# Altium footprint library ACEstat.PcbLib: 15 footprints
Each footprint in its own frame and in the unit in brackets; x right, y up, seen from the top. Pads: shape width x height; smd on the part's side, far side on the other; paste and mask are expansions set on the pad; w line width, h text height; cw(c..) or ccw(c..) is an arc to the next point about the centre after c.
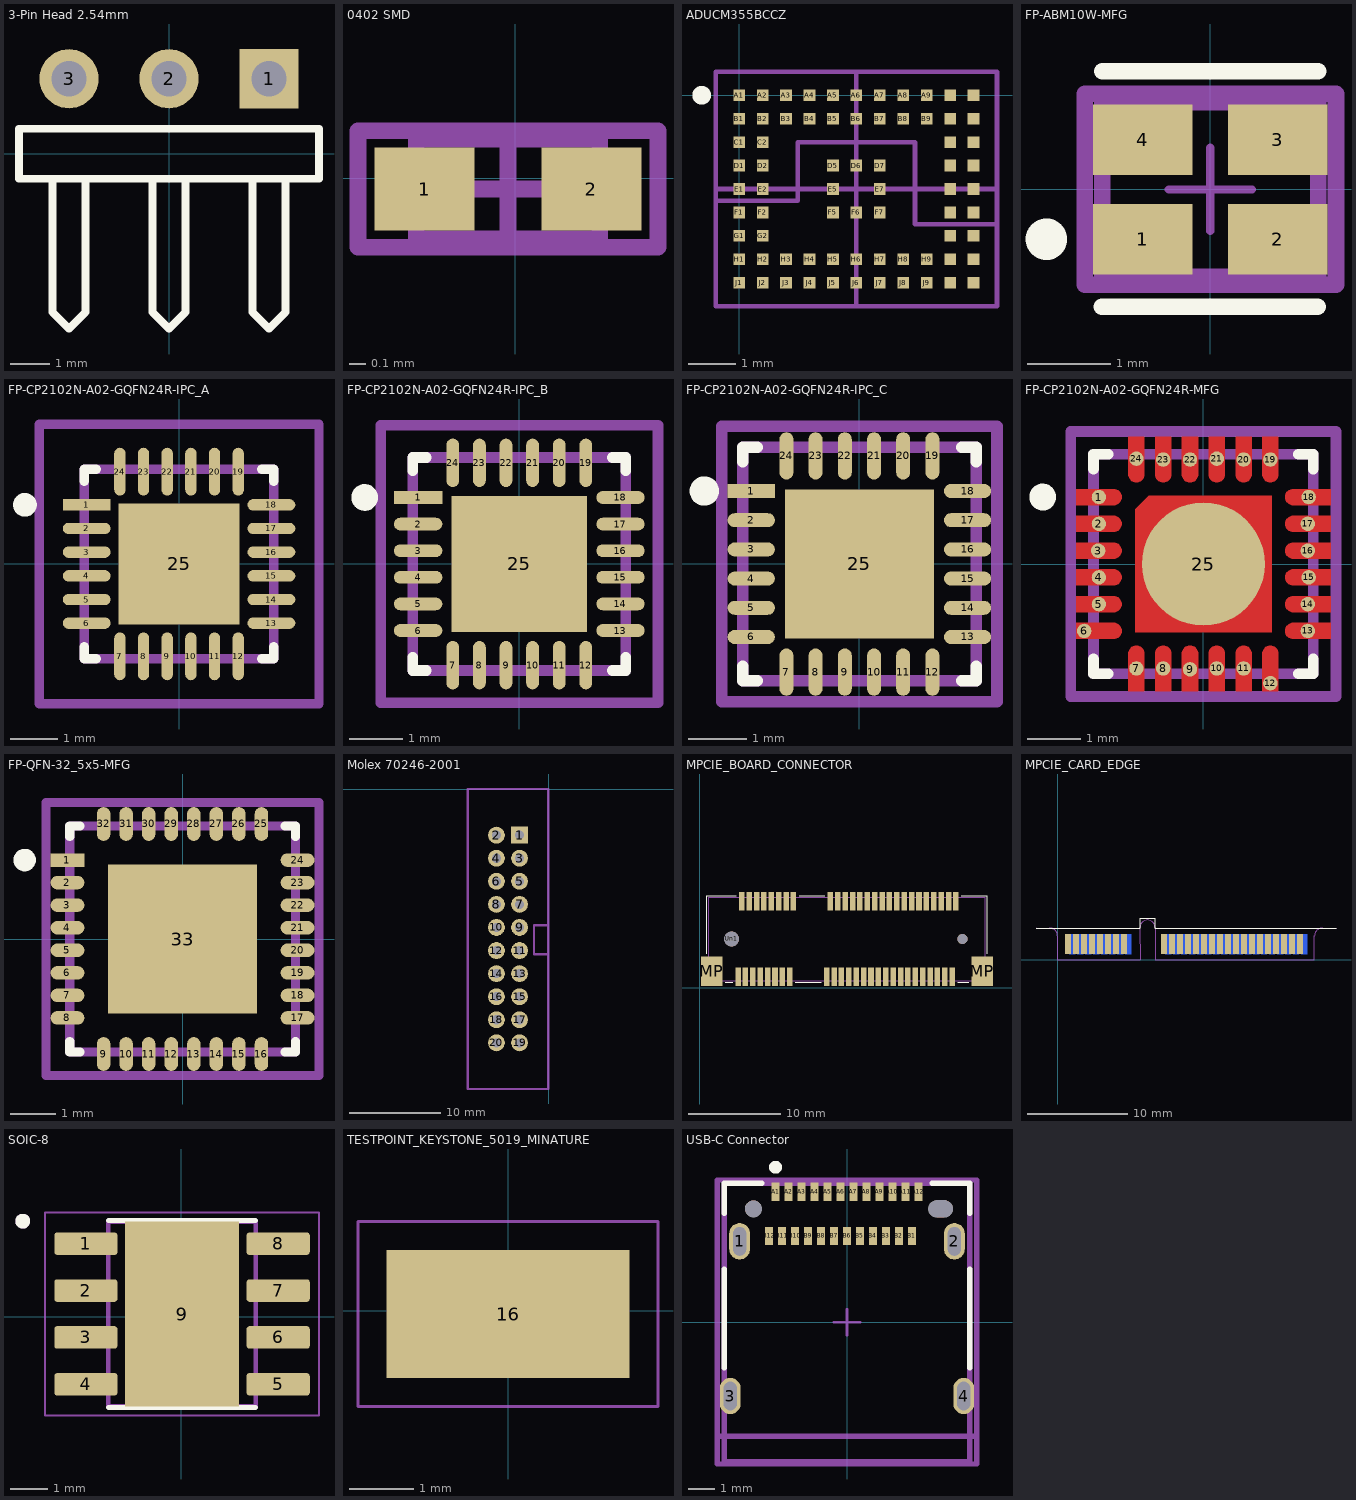
[diagram p0: the footprints below, top view; thin cyan lines are the x and y axes]

## 3-Pin Head 2.54mm [mm]
pads (3):
  rect 1.5x1.5 hole 0.9: 1(2.54,1.905)
  round 1.5 hole 0.9: 2(0,1.905) 3(-2.54,1.905)
Top Overlay:
  lines w0.2: -2.963,-0.635 -2.963,-4.022 -2.54,-4.445 -2.117,-4.022 -2.117,-0.635 ; -0.423,-0.635 -0.423,-4.022 0,-4.445 0.423,-4.022 0.423,-0.635 ; 2.117,-0.635 2.117,-4.022 2.54,-4.445 2.963,-4.022 2.963,-0.635 ; -3.81,-0.635 3.81,-0.635 3.81,0.635 -3.81,0.635 -3.81,-0.635

## 0402 SMD [mm] "Footprint for 0402 SMD components"
pads (2):
  rect 0.6x0.5 smd paste+0: 1(-0.544,-0.065)
  rect 0.6x0.5 smd: 2(0.456,-0.065)
Mechanical 13:
  lines w0.1: -0.594,-0.365 0.506,-0.365 0.506,0.235 -0.594,0.235 -0.594,-0.365
Mechanical 15:
  lines w0.1: -0.344,-0.065 0.256,-0.065 ; -0.044,-0.365 -0.044,0.235 ; -0.944,-0.415 0.856,-0.415 0.856,0.285 -0.944,0.285 -0.944,-0.415
3D body: height 1.3, standoff 0, extent -0.594,-0.365 0.506,0.235

## ADUCM355BCCZ [mm]
pads (72):
  rect 0.25x0.25 smd paste+0 mask+0.05: A1(0,0) A2(0.5,0) A3(1,0) A4(1.5,0) A5(2,0) A6(2.5,0) A7(3,0) A8(3.5,0) A9(4,0) A10(4.5,0) A11(5,0) B1(0,-0.5) B2(0.5,-0.5) B3(1,-0.5) B4(1.5,-0.5) B5(2,-0.5) B6(2.5,-0.5) B7(3,-0.5) B8(3.5,-0.5) B9(4,-0.5) B10(4.5,-0.5) B11(5,-0.5) C1(0,-1) C2(0.5,-1) C10(4.5,-1) C11(5,-1) D1(0,-1.5) D2(0.5,-1.5) D5(2,-1.5) D6(2.5,-1.5) D7(3,-1.5) D10(4.5,-1.5) D11(5,-1.5) E1(0,-2) E2(0.5,-2) E5(2,-2) E7(3,-2) E10(4.5,-2) E11(5,-2) F1(0,-2.5) F2(0.5,-2.5) F5(2,-2.5) F6(2.5,-2.5) F7(3,-2.5) F10(4.5,-2.5) F11(5,-2.5) G1(0,-3) G2(0.5,-3) G10(4.5,-3) G11(5,-3) H1(0,-3.5) H2(0.5,-3.5) H3(1,-3.5) H4(1.5,-3.5) H5(2,-3.5) H6(2.5,-3.5) H7(3,-3.5) H8(3.5,-3.5) H9(4,-3.5) H10(4.5,-3.5) H11(5,-3.5) J1(0,-4) J2(0.5,-4) J3(1,-4) J4(1.5,-4) J5(2,-4) J6(2.5,-4) J7(3,-4) J8(3.5,-4) J9(4,-4) J10(4.5,-4) J11(5,-4)
Top Overlay:
  circle w0.2: c-0.8,0 r0.1
Top Courtyard:
  lines w0.1: -0.5,-4.5 -0.5,0.5 5.5,0.5 5.5,-4.5 -0.5,-4.5
Top Assembly:
  lines w0.1: -0.5,-4.5 -0.5,0.5 5.5,0.5 5.5,-4.5 -0.5,-4.5 ; -0.5,-4.5 -0.5,-4.5
Ground Separation:
  lines w0.1: -0.5,-2.25 1.25,-2.25 1.25,-1 3.75,-1 3.75,-2.75 5.5,-2.75
Mechanical 15:
  lines w0.1: -0.5,-2 5.5,-2 ; 2.5,-4.5 2.5,0.5
3D body: height 0.25, standoff 0, extent -0.5,-4.5 5.5,0.5

## FP-ABM10W-MFG [mm]
pads (4):
  rect 1.2x0.85 smd paste+0 mask+0: 1(-0.813,-0.6) 2(0.813,-0.6) 3(0.813,0.6) 4(-0.813,0.6)
Top Overlay:
  circle w0.25: c-1.975,-0.6 r0.125
  lines w0.2: -1.308,-1.415 1.292,-1.415 ; -1.3,1.425 1.3,1.425
Top 3D Body:
  lines w0.2: -1.3,-1.05 -1.3,1.05 1.3,1.05 1.3,-1.05 -1.3,-1.05
Top Courtyard:
  lines w0.2: -1.512,-1.15 -1.512,1.15 1.512,1.15 1.512,-1.15 -1.512,-1.15
Top Assembly:
  lines w0.2: -1.512,-1.15 -1.512,1.15 1.512,1.15 1.512,-1.15 -1.512,-1.15
  text ".Designator" at 0,0.188 h1
Top Component Center:
  lines w0.1: -0.5,0 0.5,0 ; 0,-0.5 0,0.5
3D body "Crys_Abracon_ABM10W-19_7079MHZ-7-K2Z-T3_eec.STEP": height 0.25, standoff 0, extent -1.512,-1.15 1.512,1.15

## FP-CP2102N-A02-GQFN24R-IPC_A [mm]
pads (25):
  rect 1.01x0.239 smd paste+0 mask+0: 1(-1.951,1.25)
  rrect100% 1.01x0.239 smd paste+0 mask+0: 2(-1.951,0.75) 3(-1.951,0.25) 4(-1.951,-0.25) 5(-1.951,-0.75) 6(-1.951,-1.25) 13(1.951,-1.25) 14(1.951,-0.75) 15(1.951,-0.25) 16(1.951,0.25) 17(1.951,0.75) 18(1.951,1.25)
  rrect100% 0.239x1.01 smd paste+0 mask+0: 7(-1.25,-1.951) 8(-0.75,-1.951) 9(-0.25,-1.951) 10(0.25,-1.951) 11(0.75,-1.951) 12(1.25,-1.951) 19(1.25,1.951) 20(0.75,1.951) 21(0.25,1.951) 22(-0.25,1.951) 23(-0.75,1.951) 24(-1.25,1.951)
  rect 2.55x2.55 smd paste-1000 mask+0: 25(0,0)
Top Overlay:
  circle w0.25: c-3.256,1.25 r0.125
  lines w0.2: -2,-1.75 -2,-2 -1.75,-2 ; -2,1.75 -2,2 -1.75,2 ; 1.75,-2 2,-2 2,-1.75 ; 1.75,2 2,2 2,1.75
Top Paste:
  rectangle: -0.806,-0.806 0.806,0.806
Top 3D Body:
  lines w0.2: -2,-2 -2,2 2,2 2,-2 -2,-2
Top Courtyard:
  lines w0.2: -2.956,-2.956 -2.956,2.956 2.956,2.956 2.956,-2.956 -2.956,-2.956
Top Assembly:
  lines w0.2: -2.956,-2.956 -2.956,2.956 2.956,2.956 2.956,-2.956 -2.956,-2.956
  text ".Designator" at 0,0.188 h1
Top Component Center:
  lines w0.1: -0.5,0 0.5,0 ; 0,-0.5 0,0.5
3D body "IC_Silicon_Labs_CP2102N-A02-GQFN24R_eec.STEP": height 0.25, standoff 0, extent -2.956,-2.956 2.956,2.956

## FP-CP2102N-A02-GQFN24R-IPC_B [mm]
pads (25):
  rect 0.91x0.239 smd paste+0 mask+0: 1(-1.901,1.25)
  rrect100% 0.91x0.239 smd paste+0 mask+0: 2(-1.901,0.75) 3(-1.901,0.25) 4(-1.901,-0.25) 5(-1.901,-0.75) 6(-1.901,-1.25) 13(1.901,-1.25) 14(1.901,-0.75) 15(1.901,-0.25) 16(1.901,0.25) 17(1.901,0.75) 18(1.901,1.25)
  rrect100% 0.239x0.91 smd paste+0 mask+0: 7(-1.25,-1.901) 8(-0.75,-1.901) 9(-0.25,-1.901) 10(0.25,-1.901) 11(0.75,-1.901) 12(1.25,-1.901) 19(1.25,1.901) 20(0.75,1.901) 21(0.25,1.901) 22(-0.25,1.901) 23(-0.75,1.901) 24(-1.25,1.901)
  rect 2.55x2.55 smd paste-1000 mask+0: 25(0,0)
Top Overlay:
  circle w0.25: c-2.906,1.25 r0.125
  lines w0.2: -2,-1.75 -2,-2 -1.75,-2 ; -2,1.75 -2,2 -1.75,2 ; 1.75,-2 2,-2 2,-1.75 ; 1.75,2 2,2 2,1.75
Top Paste:
  rectangle: -0.806,-0.806 0.806,0.806
Top 3D Body:
  lines w0.2: -2,-2 2,-2 2,2 -2,2 -2,-2
Top Courtyard:
  lines w0.2: -2.606,-2.606 2.606,-2.606 2.606,2.606 -2.606,2.606 -2.606,-2.606
Top Assembly:
  lines w0.2: -2.606,-2.606 2.606,-2.606 2.606,2.606 -2.606,2.606 -2.606,-2.606
  text ".Designator" at 0,0.188 h1
Top Component Center:
  lines w0.1: -0.5,0 0.5,0 ; 0,-0.5 0,0.5
3D body "IC_Silicon_Labs_CP2102N-A02-GQFN24R_eec.STEP": height 0.25, standoff 0, extent -2.606,-2.606 2.606,2.606

## FP-CP2102N-A02-GQFN24R-IPC_C [mm]
pads (25):
  rect 0.81x0.239 smd paste+0 mask+0: 1(-1.851,1.25)
  rrect100% 0.81x0.239 smd paste+0 mask+0: 2(-1.851,0.75) 3(-1.851,0.25) 4(-1.851,-0.25) 5(-1.851,-0.75) 6(-1.851,-1.25) 13(1.851,-1.25) 14(1.851,-0.75) 15(1.851,-0.25) 16(1.851,0.25) 17(1.851,0.75) 18(1.851,1.25)
  rrect100% 0.239x0.81 smd paste+0 mask+0: 7(-1.25,-1.851) 8(-0.75,-1.851) 9(-0.25,-1.851) 10(0.25,-1.851) 11(0.75,-1.851) 12(1.25,-1.851) 19(1.25,1.851) 20(0.75,1.851) 21(0.25,1.851) 22(-0.25,1.851) 23(-0.75,1.851) 24(-1.25,1.851)
  rect 2.55x2.55 smd paste-1000 mask+0: 25(0,0)
Top Overlay:
  circle w0.25: c-2.656,1.25 r0.125
  lines w0.2: -2,-1.75 -2,-2 -1.75,-2 ; -2,1.75 -2,2 -1.75,2 ; 1.75,-2 2,-2 2,-1.75 ; 1.75,2 2,2 2,1.75
Top Paste:
  rectangle: -0.806,-0.806 0.806,0.806
Top 3D Body:
  lines w0.2: -2,-2 -2,2 2,2 2,-2 -2,-2
Top Courtyard:
  lines w0.2: -2.356,-2.356 -2.356,2.356 2.356,2.356 2.356,-2.356 -2.356,-2.356
Top Assembly:
  lines w0.2: -2.356,-2.356 -2.356,2.356 2.356,2.356 2.356,-2.356 -2.356,-2.356
  text ".Designator" at 0,0.188 h1
Top Component Center:
  lines w0.1: -0.5,0 0.5,0 ; 0,-0.5 0,0.5
3D body "IC_Silicon_Labs_CP2102N-A02-GQFN24R_eec.STEP": height 0.25, standoff 0, extent -2.356,-2.356 2.356,2.356

## FP-CP2102N-A02-GQFN24R-MFG [mm]
pads (25):
  round 0.27 smd paste+0 mask+0: 1(-1.95,1.25) 2(-1.95,0.75) 3(-1.965,0.25) 4(-1.95,-0.25) 5(-1.95,-0.75) 6(-2.225,-1.25) 7(-1.25,-1.95) 8(-0.75,-1.95) 9(-0.25,-1.965) 10(0.25,-1.95) 11(0.75,-1.95) 12(1.25,-2.225) 13(1.95,-1.25) 14(1.95,-0.75) 15(1.965,-0.25) 16(1.95,0.25) 17(1.95,0.75) 18(1.965,1.25) 19(1.25,1.95) 20(0.75,1.95) 21(0.25,1.965) 22(-0.25,1.95) 23(-0.75,1.95) 24(-1.25,1.965)
  round 2.295 smd paste-1000 mask+0: 25(0,0)
Top Layer:
  region: -2.375,1.4 -1.675,1.4 -1.645,1.4 -1.59,1.377 -1.548,1.335 -1.525,1.28 -1.525,1.25 -1.525,1.22 -1.548,1.165 -1.59,1.123 -1.645,1.1 -1.675,1.1 -2.375,1.1
  region: -2.375,0.9 -1.675,0.9 -1.645,0.9 -1.59,0.877 -1.548,0.835 -1.525,0.78 -1.525,0.75 -1.525,0.72 -1.548,0.665 -1.59,0.623 -1.645,0.6 -1.675,0.6 -2.375,0.6
  region: -2.375,0.4 -1.675,0.4 -1.645,0.4 -1.59,0.377 -1.548,0.335 -1.525,0.28 -1.525,0.25 -1.525,0.22 -1.548,0.165 -1.59,0.123 -1.645,0.1 -1.675,0.1 -2.375,0.1
  region: -2.375,-0.1 -1.675,-0.1 -1.645,-0.1 -1.59,-0.123 -1.548,-0.165 -1.525,-0.22 -1.525,-0.25 -1.525,-0.28 -1.548,-0.335 -1.59,-0.377 -1.645,-0.4 -1.675,-0.4 -2.375,-0.4
  region: -2.375,-0.6 -1.675,-0.6 -1.645,-0.6 -1.59,-0.623 -1.548,-0.665 -1.525,-0.72 -1.525,-0.75 -1.525,-0.78 -1.548,-0.835 -1.59,-0.877 -1.645,-0.9 -1.675,-0.9 -2.375,-0.9
  region: -2.375,-1.1 -1.675,-1.1 -1.645,-1.1 -1.59,-1.123 -1.548,-1.165 -1.525,-1.22 -1.525,-1.25 -1.525,-1.28 -1.548,-1.335 -1.59,-1.377 -1.645,-1.4 -1.675,-1.4 -2.375,-1.4
  region: 2.375,-1.4 1.675,-1.4 1.645,-1.4 1.59,-1.377 1.548,-1.335 1.525,-1.28 1.525,-1.25 1.525,-1.22 1.548,-1.165 1.59,-1.123 1.645,-1.1 1.675,-1.1 2.375,-1.1
  region: 2.375,-0.9 1.675,-0.9 1.645,-0.9 1.59,-0.877 1.548,-0.835 1.525,-0.78 1.525,-0.75 1.525,-0.72 1.548,-0.665 1.59,-0.623 1.645,-0.6 1.675,-0.6 2.375,-0.6
  region: 2.375,-0.4 1.675,-0.4 1.645,-0.4 1.59,-0.377 1.548,-0.335 1.525,-0.28 1.525,-0.25 1.525,-0.22 1.548,-0.165 1.59,-0.123 1.645,-0.1 1.675,-0.1 2.375,-0.1
  region: 2.375,0.1 1.675,0.1 1.645,0.1 1.59,0.123 1.548,0.165 1.525,0.22 1.525,0.25 1.525,0.28 1.548,0.335 1.59,0.377 1.645,0.4 1.675,0.4 2.375,0.4
  region: 2.375,0.6 1.675,0.6 1.645,0.6 1.59,0.623 1.548,0.665 1.525,0.72 1.525,0.75 1.525,0.78 1.548,0.835 1.59,0.877 1.645,0.9 1.675,0.9 2.375,0.9
  region: 2.375,1.1 1.675,1.1 1.645,1.1 1.59,1.123 1.548,1.165 1.525,1.22 1.525,1.25 1.525,1.28 1.548,1.335 1.59,1.377 1.645,1.4 1.675,1.4 2.375,1.4
  region: -1.4,-2.375 -1.4,-1.675 -1.4,-1.645 -1.377,-1.59 -1.335,-1.548 -1.28,-1.525 -1.25,-1.525 -1.22,-1.525 -1.165,-1.548 -1.123,-1.59 -1.1,-1.645 -1.1,-1.675 -1.1,-2.375
  region: -0.9,-2.375 -0.9,-1.675 -0.9,-1.645 -0.877,-1.59 -0.835,-1.548 -0.78,-1.525 -0.75,-1.525 -0.72,-1.525 -0.665,-1.548 -0.623,-1.59 -0.6,-1.645 -0.6,-1.675 -0.6,-2.375
  region: -0.4,-2.375 -0.4,-1.675 -0.4,-1.645 -0.377,-1.59 -0.335,-1.548 -0.28,-1.525 -0.25,-1.525 -0.22,-1.525 -0.165,-1.548 -0.123,-1.59 -0.1,-1.645 -0.1,-1.675 -0.1,-2.375
  region: 0.1,-2.375 0.1,-1.675 0.1,-1.645 0.123,-1.59 0.165,-1.548 0.22,-1.525 0.25,-1.525 0.28,-1.525 0.335,-1.548 0.377,-1.59 0.4,-1.645 0.4,-1.675 0.4,-2.375
  region: 0.6,-2.375 0.6,-1.675 0.6,-1.645 0.623,-1.59 0.665,-1.548 0.72,-1.525 0.75,-1.525 0.78,-1.525 0.835,-1.548 0.877,-1.59 0.9,-1.645 0.9,-1.675 0.9,-2.375
  region: 1.1,-2.375 1.1,-1.675 1.1,-1.645 1.123,-1.59 1.165,-1.548 1.22,-1.525 1.25,-1.525 1.28,-1.525 1.335,-1.548 1.377,-1.59 1.4,-1.645 1.4,-1.675 1.4,-2.375
  region: 1.4,2.375 1.4,1.675 1.4,1.645 1.377,1.59 1.335,1.548 1.28,1.525 1.25,1.525 1.22,1.525 1.165,1.548 1.123,1.59 1.1,1.645 1.1,1.675 1.1,2.375
  region: 0.9,2.375 0.9,1.675 0.9,1.645 0.877,1.59 0.835,1.548 0.78,1.525 0.75,1.525 0.72,1.525 0.665,1.548 0.623,1.59 0.6,1.645 0.6,1.675 0.6,2.375
  region: 0.4,2.375 0.4,1.675 0.4,1.645 0.377,1.59 0.335,1.548 0.28,1.525 0.25,1.525 0.22,1.525 0.165,1.548 0.123,1.59 0.1,1.645 0.1,1.675 0.1,2.375
  region: -0.1,2.375 -0.1,1.675 -0.1,1.645 -0.123,1.59 -0.165,1.548 -0.22,1.525 -0.25,1.525 -0.28,1.525 -0.335,1.548 -0.377,1.59 -0.4,1.645 -0.4,1.675 -0.4,2.375
  region: -0.6,2.375 -0.6,1.675 -0.6,1.645 -0.623,1.59 -0.665,1.548 -0.72,1.525 -0.75,1.525 -0.78,1.525 -0.835,1.548 -0.877,1.59 -0.9,1.645 -0.9,1.675 -0.9,2.375
  region: -1.1,2.375 -1.1,1.675 -1.1,1.645 -1.123,1.59 -1.165,1.548 -1.22,1.525 -1.25,1.525 -1.28,1.525 -1.335,1.548 -1.377,1.59 -1.4,1.645 -1.4,1.675 -1.4,2.375
  region: -1.275,1.025 -1.025,1.275 1.275,1.275 1.275,-1.275 -1.275,-1.275
Top Overlay:
  circle w0.25: c-3,1.25 r0.125
  lines w0.2: -2.05,-1.775 -2.05,-2.05 -1.775,-2.05 ; -2.05,1.775 -2.05,2.05 -1.775,2.05 ; 1.775,-2.05 2.05,-2.05 2.05,-1.775 ; 1.775,2.05 2.05,2.05 2.05,1.775
Top Paste:
  rectangle: -1.05,0.15 -0.15,1.05
  rectangle: -1.05,-1.05 -0.15,-0.15
  rectangle: 0.15,-1.05 1.05,-0.15
  rectangle: 0.15,0.15 1.05,1.05
Top 3D Body:
  lines w0.2: -2.05,-2.05 2.05,-2.05 2.05,2.05 -2.05,2.05 -2.05,-2.05
Top Courtyard:
  lines w0.2: -2.475,-2.475 2.475,-2.475 2.475,2.475 -2.475,2.475 -2.475,-2.475
Top Assembly:
  lines w0.2: -2.475,-2.475 2.475,-2.475 2.475,2.475 -2.475,2.475 -2.475,-2.475
  text ".Designator" at 0,0.188 h1
Top Component Center:
  lines w0.1: -0.5,0 0.5,0 ; 0,-0.5 0,0.5
3D body "IC_Silicon_Labs_CP2102N-A02-GQFN24R_eec.STEP": height 0.25, standoff 0, extent -2.475,-2.475 2.475,2.475

## FP-QFN-32_5x5-MFG [mm]
pads (33):
  rect 0.75x0.3 smd paste+0 mask+0: 1(-2.55,1.75)
  rrect100% 0.75x0.3 smd paste+0 mask+0: 2(-2.55,1.25) 3(-2.55,0.75) 4(-2.55,0.25) 5(-2.55,-0.25) 6(-2.55,-0.75) 7(-2.55,-1.25) 8(-2.55,-1.75) 17(2.55,-1.75) 18(2.55,-1.25) 19(2.55,-0.75) 20(2.55,-0.25) 21(2.55,0.25) 22(2.55,0.75) 23(2.55,1.25) 24(2.55,1.75)
  rrect100% 0.3x0.75 smd paste+0 mask+0: 9(-1.75,-2.55) 10(-1.25,-2.55) 11(-0.75,-2.55) 12(-0.25,-2.55) 13(0.25,-2.55) 14(0.75,-2.55) 15(1.25,-2.55) 16(1.75,-2.55) 25(1.75,2.55) 26(1.25,2.55) 27(0.75,2.55) 28(0.25,2.55) 29(-0.25,2.55) 30(-0.75,2.55) 31(-1.25,2.55) 32(-1.75,2.55)
  rect 3.3x3.3 smd paste+0 mask+0: 33(0,0)
Top Overlay:
  circle w0.25: c-3.5,1.75 r0.125
  lines w0.2: -2.5,-2.275 -2.5,-2.5 -2.275,-2.5 ; -2.5,2.275 -2.5,2.5 -2.275,2.5 ; 2.275,-2.5 2.5,-2.5 2.5,-2.275 ; 2.275,2.5 2.5,2.5 2.5,2.275
Top 3D Body:
  lines w0.2: -2.5,-2.5 2.5,-2.5 2.5,2.5 -2.5,2.5 -2.5,-2.5
Top Courtyard:
  lines w0.2: -3.025,-3.025 3.025,-3.025 3.025,3.025 -3.025,3.025 -3.025,-3.025
Top Assembly:
  lines w0.2: -3.025,-3.025 3.025,-3.025 3.025,3.025 -3.025,3.025 -3.025,-3.025
  text ".Designator" at 0,0.188 h1
Top Component Center:
  lines w0.1: -0.5,0 0.5,0 ; 0,-0.5 0,0.5
3D body "IC_FTDI_FT232RQ-REEL_eec.STEP": height 0.25, standoff 0, extent -3.025,-3.025 3.025,3.025

## Molex 70246-2001 [mm] "20-Pin JTAG Female connector"
pads (20):
  rect 1.85x1.85 hole 1: 1(-3.2,-5.08)
  round 1.85 hole 1: 2(-5.74,-5.08) 3(-3.2,-7.62) 4(-5.74,-7.62) 5(-3.2,-10.16) 6(-5.74,-10.16) 7(-3.2,-12.7) 8(-5.74,-12.7) 9(-3.2,-15.24) 10(-5.74,-15.24) 11(-3.2,-17.78) 12(-5.74,-17.78) 13(-3.2,-20.32) 14(-5.74,-20.32) 15(-3.2,-22.86) 16(-5.74,-22.86) 17(-3.2,-25.4) 18(-5.74,-25.4) 19(-3.2,-27.94) 20(-5.74,-27.94)
Top 3D Body:
  lines w0.254: -0.1,-18.2 -1.6,-18.2 -1.6,-15 -0.1,-15 ; -8.915,-33.02 -0.025,-33.02 -0.025,0 -8.915,0 -8.915,-33.02

## MPCIE_BOARD_CONNECTOR [mm] "Mini PCIe connect"
pads (56):
  rect 0.6x2 smd: 1(4.146,1.164) 2(4.546,9.364) 3(4.946,1.164) 4(5.346,9.364) 5(5.746,1.164) 6(6.146,9.364) 7(6.546,1.164) 8(6.946,9.364) 9(7.346,1.164) 10(7.746,9.364) 11(8.146,1.164) 12(8.546,9.364) 13(8.946,1.164) 14(9.346,9.364) 16(10.146,9.364) 17(13.746,1.164) 18(14.146,9.364) 19(14.546,1.164) 20(14.946,9.364) 21(15.346,1.164) 22(15.746,9.364) 23(16.146,1.164) 24(16.546,9.364) 25(16.946,1.164) 26(17.346,9.364) 27(17.746,1.164) 28(18.146,9.364) 29(18.546,1.164) 30(18.946,9.364) 31(19.346,1.164) 32(19.746,9.364) 33(20.146,1.164) 34(20.546,9.364) 35(20.946,1.164) 36(21.346,9.364) 37(21.746,1.164) 38(22.146,9.364) 39(22.546,1.164) 40(22.946,9.364) 41(23.346,1.164) 42(23.746,9.364) 43(24.146,1.164) 44(24.546,9.364) 45(24.946,1.164) 46(25.346,9.364) 47(25.746,1.164) 48(26.146,9.364) 49(26.546,1.164) 50(26.946,9.364) 51(27.346,1.164) 52(27.746,9.364)
  rect 0.6x2 smd mask+0.102: 15(9.746,1.164)
  rect 2.3x3.2 smd: MP(1.296,1.764) MP(30.596,1.764)
  round 1.6 hole 1.6: Un1(3.446,5.264)
  round 1.1 hole 1.1: Un2(28.446,5.264)
Top Overlay:
  lines w0.12: 0.746,3.664 0.746,9.964 3.946,9.964 ; 2.746,0.564 3.546,0.564 ; 10.346,0.564 13.146,0.564 ; 10.746,9.964 13.546,9.964 ; 27.946,0.564 29.146,0.564 ; 28.346,9.964 31.146,9.964 31.146,3.664
Mechanical 6:
  lines w0.1: 0.946,0.764 30.946,0.764 30.946,9.764 0.946,9.764 0.946,0.764
  text "%R" at 15.553,4.971 h1
3D body "c-1759546-1-d-3d.stp": height 2, standoff -7.26, extent 0.85,-0.225 30.85,10.325

## MPCIE_CARD_EDGE [mm] "Based on https://www.te.com/commerce/DocumentDelivery/DDEController?Action=srchrtrv&DocNm=1775838&DocType=Customer+Drawing&DocLang=English"
pads (52):
  rect 0.6x2 smd mask+0.102: 1(1.05,1.575) 1(6.65,1.575) 3(1.85,1.575) 5(2.65,1.575) 7(3.45,1.575) 9(4.25,1.575) 11(5.05,1.575) 13(5.85,1.575) 17(10.65,1.575) 19(11.45,1.575) 21(12.25,1.575) 23(13.05,1.575) 25(13.85,1.575) 27(14.65,1.575) 29(15.45,1.575) 31(16.25,1.575) 33(17.05,1.575) 35(17.85,1.575) 37(18.65,1.575) 39(19.45,1.575) 41(20.25,1.575) 43(21.05,1.575) 45(21.85,1.575) 47(22.65,1.575) 49(23.45,1.575) 51(24.25,1.575)
  rect 0.6x2 smd far side: 2(1.45,1.575) 4(2.25,1.575) 6(3.05,1.575) 8(3.85,1.575) 10(4.65,1.575) 12(5.45,1.575) 14(6.25,1.575) 16(7.05,1.575) 18(11.05,1.575) 20(11.85,1.575) 22(12.65,1.575) 24(13.45,1.575) 26(14.25,1.575) 28(15.05,1.575) 30(15.85,1.575) 32(16.65,1.575) 34(17.45,1.575) 36(18.25,1.575) 38(19.05,1.575) 40(19.85,1.575) 42(20.65,1.575) 44(21.45,1.575) 46(22.25,1.575) 48(23.05,1.575) 50(23.85,1.575) 52(24.65,1.575)
Top Overlay:
  lines w0.05: -2.15,3.198 8.25,3.198 8.25,4.197 9.75,4.197 9.75,3.198 ; 9.751,3.198 25.409,3.198 27.85,3.197
Mechanical 1:
  lines w0.05: -2.15,3.2 -0.8,3.198 cw(c-0.799,2.399) 0,2.4 0,0 8.25,0 8.25,3.198 ; 8.249,3.198 cw(c9.04,3.214) 9,4.004 cw(c8.961,3.215) 9.751,3.198 9.757,0 25.7,0 25.7,2.4 ; 25.7,2.398 cw(c26.5,2.398) 26.5,3.198 27.85,3.198

## SOIC-8 [mm]
pads (9):
  rrect25% 1.71x0.61 smd: 1(-2.587,1.973) 2(-2.587,0.703) 3(-2.587,-0.567) 4(-2.587,-1.837) 5(2.623,-1.837) 6(2.623,-0.567) 7(2.623,0.703) 8(2.623,1.973)
  rect 3.1x5 smd paste-3: 9(0.018,0.068)
Top Overlay:
  circle w0.2: c-4.297,2.583 r0.1
  lines w0.127: -1.982,-2.462 2.018,-2.462 ; -1.982,2.598 2.018,2.598
Top Paste:
  region: 0.793,-1.182 -0.757,-1.182 -0.757,1.318 0.793,1.318
Mechanical 13:
  circle w0.2: c-4.297,2.583 r0.1
  lines w0.127: -1.982,-2.432 -1.982,2.568 2.018,2.568 2.018,-2.432 -1.982,-2.432
Mechanical 15:
  lines w0.05: -3.692,-2.682 -3.692,2.818 3.728,2.818 3.728,-2.682 -3.692,-2.682

## TESTPOINT_KEYSTONE_5019_MINATURE [mm]
pads (1):
  rect 3.8x2 smd: 16(0,-0.05)
Top Courtyard:
  lines w0.05: -2.35,-1.5 2.35,-1.5 2.35,1.4 -2.35,1.4 -2.35,-1.5

## USB-C Connector [mm]
pads (30):
  rrect100% 0.8x1.4 hole 1.1 slot 0.5 at 0 deg paste-1000 mask+0: 1(-4.13,3.115) 2(4.13,3.115) 3(-4.49,-2.835) 4(4.49,-2.835)
  rect 0.3x0.7 smd paste+0 mask+0: A1(-2.75,5.025) A2(-2.25,5.025) A3(-1.75,5.025) A4(-1.25,5.025) A5(-0.75,5.025) A6(-0.25,5.025) A7(0.25,5.025) A8(0.75,5.025) A9(1.25,5.025) A10(1.75,5.025) A11(2.25,5.025) A12(2.75,5.025) B1(2.5,3.325) B2(2,3.325) B3(1.5,3.325) B4(1,3.325) B5(0.5,3.325) B6(0,3.325) B7(-0.5,3.325) B8(-1,3.325) B9(-1.5,3.325) B10(-2,3.325) B11(-2.5,3.325) B12(-3,3.325)
  round 0.65 hole 0.65 unplated paste-1000 mask+0: ""(-3.6,4.365)
  rrect100% 0.95x0.65 hole 0.65 slot 0.95 at 0 deg unplated paste-1000 mask+0: ""(3.6,4.365)
Top Overlay:
  circle w0.25: c-2.75,5.965 r0.125
  lines w0.2: -4.725,-1.76 -4.725,2.04 ; -4.725,4.19 -4.725,5.35 -3.275,5.35 ; 3.275,5.35 4.725,5.35 4.725,4.19 ; 4.725,-1.76 4.725,2.04
Top 3D Body:
  lines w0.2: -4.99,-4.385 4.99,-4.385 ; -4.725,-5.35 4.725,-5.35 4.725,5.35 -4.725,5.35 -4.725,-5.35
Board:
  lines w0.2: -4.99,-5.45 4.99,-5.45 4.99,5.475 -4.99,5.475 -4.99,-5.45
Top Assembly:
  lines w0.2: -4.99,-5.45 4.99,-5.45 4.99,5.475 -4.99,5.475 -4.99,-5.45
  text ".Designator" at 0,0.012 h1
Top Component Center:
  lines w0.1: -0.5,0 0.5,0 ; 0,-0.5 0,0.5
3D body "Conn_Amphenol_12401610E4#2A_eec.STEP": height 0.25, standoff 0, extent -4.99,-5.45 4.99,5.475